# EAGLE library part XF2J-2624-11A (library OMRON_ELECTRONIC_COMPONENTS_By_element14_Batch_1)
FFC/FPC CONNECTOR, RECEPTACLE 26POS 1ROW
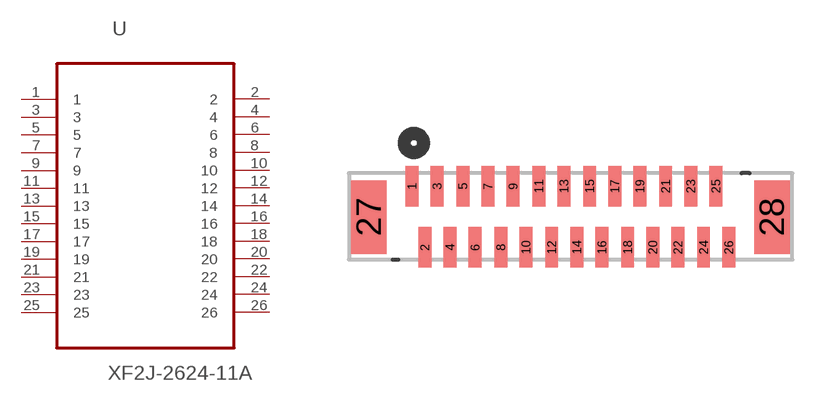
[diagram p1: symbol with the pads of OMRON_XF2J-2624-11A; footprint OMRON_XF2J-2624-11A]

Designator prefix U

## XF2J-2624-11A (MPN: XF2J-2624-11A; OC_FARNELL: -; OC_NEWARK: 05M1981; PACKAGE: FFC/FPC CONNECTOR, RECEPTACLE 26POS 1ROW; SUPPLIER: OMRON ELECTRONIC COMPONENTS)  [OMRON_XF2J-2624-11A]
1  1  pas
2  2  pas
3  3  pas
4  4  pas
5  5  pas
6  6  pas
7  7  pas
8  8  pas
9  9  pas
10  10  pas
11  11  pas
12  12  pas
13  13  pas
14  14  pas
15  15  pas
16  16  pas
17  17  pas
18  18  pas
19  19  pas
20  20  pas
21  21  pas
22  22  pas
23  23  pas
24  24  pas
25  25  pas
26  26  pas

## Footprint OMRON_XF2J-2624-11A (pad centres in mm)
smd 0.508 x 1.6: 1 0,4.826; 2 0.508,2.413; 3 0.991,4.826; 4 1.499,2.413; 5 2.007,4.826; 6 2.489,2.413; 7 2.997,4.826; 8 3.505,2.413; 9 3.988,4.826; 10 4.496,2.413; 11 5.004,4.826; 12 5.512,2.413; 13 5.994,4.826; 14 6.502,2.413; 15 7.01,4.826; 16 7.493,2.413; 17 8.001,4.826; 18 8.509,2.413; 19 8.992,4.826; 20 9.5,2.413; 21 10.008,4.826; 22 10.49,2.413; 23 10.998,4.826; 24 11.506,2.413; 25 11.989,4.826; 26 12.497,2.413
smd 1.397 x 2.896: 27 -1.702,3.607; 28 14.199,3.607